# Altium footprint library smd_case.PcbLib: 3 footprints
Each footprint in its own frame and in the unit in brackets; x right, y up, seen from the top. Pads: shape width x height; smd on the part's side, far side on the other; paste and mask are expansions set on the pad; w line width, h text height; cw(c..) or ccw(c..) is an arc to the next point about the centre after c.
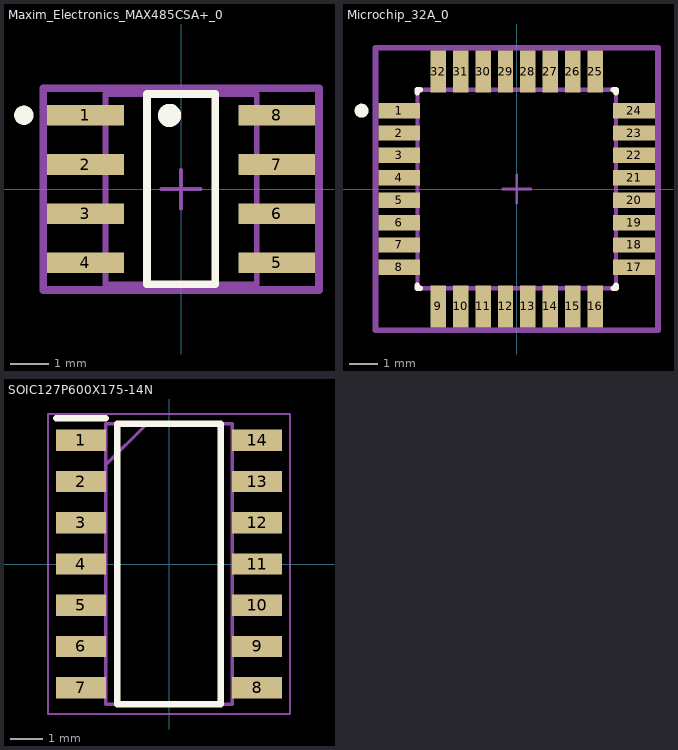
[diagram p0: the footprints below, top view; thin cyan lines are the x and y axes]

## Maxim_Electronics_MAX485CSA+_0 [mm]
pads (8):
  rect 1.98x0.53 smd paste+0 mask+0: 1(-2.465,1.905) 2(-2.465,0.635) 3(-2.465,-0.635) 4(-2.465,-1.898) 5(2.465,-1.898) 6(2.465,-0.635) 7(2.465,0.635) 8(2.465,1.905)
Top Overlay:
  circle w0.3: c-0.3,1.9 r0.15
  circle w0.25: c-4.053,1.905 r0.125
  lines w0.2: -0.879,-2.45 -0.879,2.45 0.879,2.45 0.879,-2.45 -0.879,-2.45
Mechanical 10:
  lines w0.2: -3.555,-2.6 -3.555,2.6 3.555,2.6 3.555,-2.6 -3.555,-2.6
  text ".Designator" at 0,0 h1
Mechanical 12:
  lines w0.15: -1.95,-2.45 -1.95,2.45 1.95,2.45 1.95,-2.45 -1.95,-2.45
Mechanical 15:
  lines w0.1: -0.5,0 0.5,0 ; 0,-0.5 0,0.5
  lines w0.2: -3.555,-2.6 -3.555,2.6 3.555,2.6 3.555,-2.6 -3.555,-2.6
3D body "3dmodel.step": height 0.25, standoff 0, extent -3.555,-2.6 3.555,2.6

## Microchip_32A_0 [mm]
pads (32):
  rect 1.5x0.55 smd paste+0 mask+0: 1(-4.2,2.8) 2(-4.2,2) 3(-4.2,1.2) 4(-4.2,0.4) 5(-4.2,-0.4) 6(-4.2,-1.2) 7(-4.2,-2) 8(-4.2,-2.8) 17(4.2,-2.8) 18(4.2,-2) 19(4.2,-1.2) 20(4.2,-0.4) 21(4.2,0.4) 22(4.2,1.2) 23(4.2,2) 24(4.2,2.8)
  rect 0.55x1.5 smd paste+0 mask+0: 9(-2.8,-4.2) 10(-2,-4.2) 11(-1.2,-4.2) 12(-0.4,-4.2) 13(0.4,-4.2) 14(1.2,-4.2) 15(2,-4.2) 16(2.8,-4.2) 25(2.8,4.2) 26(2,4.2) 27(1.2,4.2) 28(0.4,4.2) 29(-0.4,4.2) 30(-1.2,4.2) 31(-2,4.2) 32(-2.8,4.2)
Top Overlay:
  circle w0.25: c-5.55,2.8 r0.125
  lines w0.2: -3.55,-3.45 -3.55,-3.55 -3.45,-3.55 ; -3.55,3.45 -3.55,3.55 -3.45,3.55 ; 3.45,-3.55 3.55,-3.55 3.55,-3.45 ; 3.45,3.55 3.55,3.55 3.55,3.45
Mechanical 10:
  lines w0.2: -5.05,-5.05 5.05,-5.05 5.05,5.05 -5.05,5.05 -5.05,-5.05
  text ".Designator" at 0,0 h1
Mechanical 12:
  lines w0.15: -3.55,-3.55 3.55,-3.55 3.55,3.55 -3.55,3.55 -3.55,-3.55
Mechanical 15:
  lines w0.1: -0.5,0 0.5,0 ; 0,-0.5 0,0.5
  lines w0.2: -5.05,-5.05 5.05,-5.05 5.05,5.05 -5.05,5.05 -5.05,-5.05
3D body "IC_Microchip_ATMEGA328P-AUR_eec.STEP": height 0.25, standoff 0, extent -5.05,-5.05 5.05,5.05

## SOIC127P600X175-14N [mm]
pads (14):
  rect 1.528x0.65 smd: 1(-2.711,3.81) 2(-2.711,2.54) 3(-2.711,1.27) 4(-2.711,0) 5(-2.711,-1.27) 6(-2.711,-2.54) 7(-2.711,-3.81) 8(2.711,-3.81) 9(2.711,-2.54) 10(2.711,-1.27) 11(2.711,0) 12(2.711,1.27) 13(2.711,2.54) 14(2.711,3.81)
Top Overlay:
  lines w0.2: -3.475,4.485 -1.948,4.485 ; -1.598,-4.322 -1.598,4.322 1.598,4.322 1.598,-4.322 -1.598,-4.322
Mechanical 15:
  lines w0.1: -1.948,3.052 -0.678,4.322 ; -1.948,-4.322 -1.948,4.322 1.948,4.322 1.948,-4.322 -1.948,-4.322
Mechanical 20:
  lines w0.05: -3.725,-4.62 -3.725,4.62 3.725,4.62 3.725,-4.62 -3.725,-4.62